# Altium footprint library S6B-ZR-SM4A-TF.PcbLib: 1 footprints
Each footprint in its own frame and in the unit in brackets; x right, y up, seen from the top. Pads: shape width x height; smd on the part's side, far side on the other; paste and mask are expansions set on the pad; w line width, h text height; cw(c..) or ccw(c..) is an arc to the next point about the centre after c.
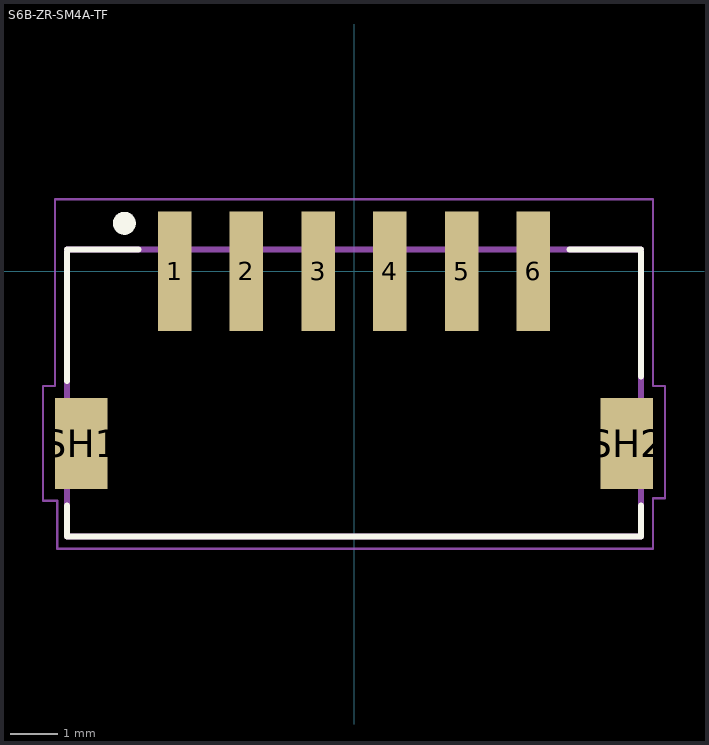
[diagram p0: the footprint, top view; thin cyan lines are the x and y axes]

## S6B-ZR-SM4A-TF [mm] "*JST_S6B-ZR-SM4A-TF(LF)(SN)_S6B-ZR-SM4A-TF(LF)(SN)(Primary)"
pads (8):
  rect 0.7x2.5 smd: 1(-3.75,0) 2(-2.25,0) 3(-0.75,0) 4(0.75,0) 5(2.25,0) 6(3.75,0)
  rect 1.1x1.9 smd: SH1(-5.7,-3.6) SH2(5.7,-3.6)
Top Overlay:
  circle w0.24: c-4.8,1 r0.12
  lines w0.127: -6,-5.55 6,-5.55 ; -6,-5.5 -6,-4.9 ; -6,-2.3 -6,0.4 ; -6,0.45 -4.5,0.45 ; 4.5,0.45 6,0.45 ; 6,-5.5 6,-4.9 ; 6,-2.2 6,0.4
Mechanical 13:
  lines w0.127: -6,-5.55 6,-5.55 ; -6,-5.55 -6,0.45 ; -6,-5.55 6,-5.55 ; -6,-5.55 -6,0.45 ; -6,0.45 6,0.45 ; -6,0.45 6,0.45 ; 6,-5.55 6,0.45 ; 6,-5.55 6,0.45
Mechanical 15:
  lines w0.05: -6.5,-4.8 -6.3,-4.8 -6.2,-4.8 -6.2,-5.8 6.25,-5.8 6.25,-4.75 6.5,-4.75 6.5,-2.4 6.25,-2.4 6.25,1.5 -6.25,1.5 -6.25,-2.4 -6.5,-2.4 -6.5,-4.8
3D body "S6B-ZR-SM4A-TF(LF)(SN)--3DModel-STEP-56544.STEP": height 3.7, standoff 0, extent -6,-5.588 6,0.912